# EAGLE library part MPC2551SM (library ELM)
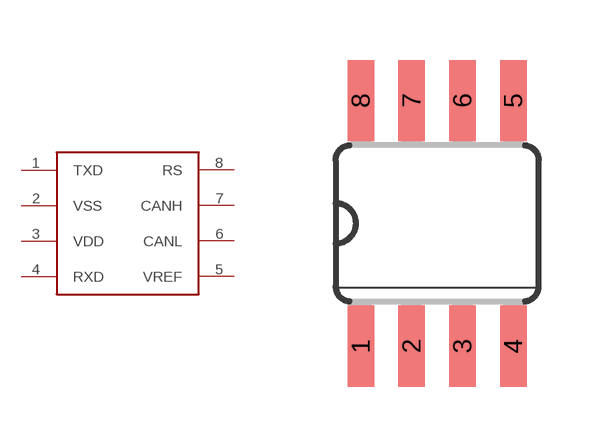
[diagram p9: symbol with the pads of MPC2551SM; footprint MPC2551SM]

Designator prefix -

## MPC2551SM  [MPC2551SM]
1  TXD
2  VSS  pwr
3  VDD  pwr
4  RXD
5  VREF
6  CANL
7  CANH
8  RS

## Footprint MPC2551SM (pad centres in mm)
smd 0.66 x 2.032: 1 -1.905,2.007; 2 -0.635,2.007; 3 0.635,2.007; 4 1.905,2.007; 5 1.905,8.153; 6 0.635,8.153; 7 -0.635,8.153; 8 -1.905,8.153